# Altium footprint library SnapEDApcb.PcbLib: 1 footprints
Each footprint in its own frame and in the unit in brackets; x right, y up, seen from the top. Pads: shape width x height; smd on the part's side, far side on the other; paste and mask are expansions set on the pad; w line width, h text height; cw(c..) or ccw(c..) is an arc to the next point about the centre after c.
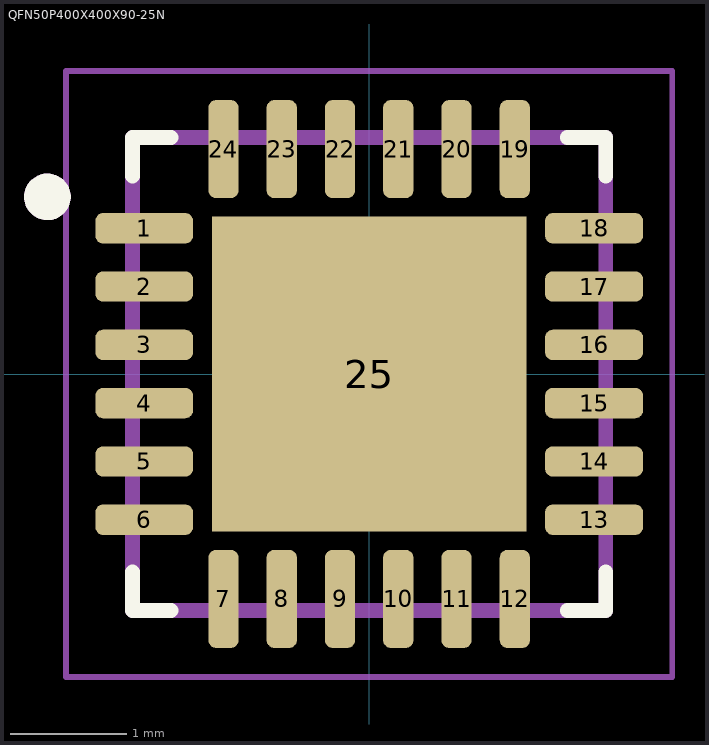
[diagram p0: the footprint, top view; thin cyan lines are the x and y axes]

## QFN50P400X400X90-25N [mm]
pads (25):
  rrect50% 0.84x0.26 smd: 1(-1.93,1.25) 2(-1.93,0.75) 3(-1.93,0.25) 4(-1.93,-0.25) 5(-1.93,-0.75) 6(-1.93,-1.25) 13(1.93,-1.25) 14(1.93,-0.75) 15(1.93,-0.25) 16(1.93,0.25) 17(1.93,0.75) 18(1.93,1.25)
  rrect50% 0.26x0.84 smd: 7(-1.25,-1.93) 8(-0.75,-1.93) 9(-0.25,-1.93) 10(0.25,-1.93) 11(0.75,-1.93) 12(1.25,-1.93) 19(1.25,1.93) 20(0.75,1.93) 21(0.25,1.93) 22(-0.25,1.93) 23(-0.75,1.93) 24(-1.25,1.93)
  rect 2.7x2.7 smd paste-2: 25(0,0)
Top Overlay:
  circle w0.2: c-2.76,1.52 r0.1
  lines w0.127: -2.03,-1.7 -2.03,-2.03 -1.7,-2.03 ; -2.03,1.7 -2.03,2.03 -1.7,2.03 ; 1.7,-2.03 2.03,-2.03 2.03,-1.7 ; 1.7,2.03 2.03,2.03 2.03,1.7
Top Paste:
  region: 1.09,-1.09 0.13,-1.09 0.13,-0.13 1.09,-0.13
  region: -0.13,-1.09 -1.09,-1.09 -1.09,-0.13 -0.13,-0.13
  region: -0.13,0.13 -1.09,0.13 -1.09,1.09 -0.13,1.09
  region: 1.09,0.13 0.13,0.13 0.13,1.09 1.09,1.09
Mechanical 13:
  circle w0.2: c-2.76,1.52 r0.1
  lines w0.127: -2.03,-2.03 -2.03,2.03 2.03,2.03 2.03,-2.03 -2.03,-2.03
Mechanical 15:
  lines w0.05: -2.6,-2.6 -2.6,2.6 2.6,2.6 2.6,-2.6 -2.6,-2.6